# EAGLE library part RC522 (library LARS_409_MODULES)
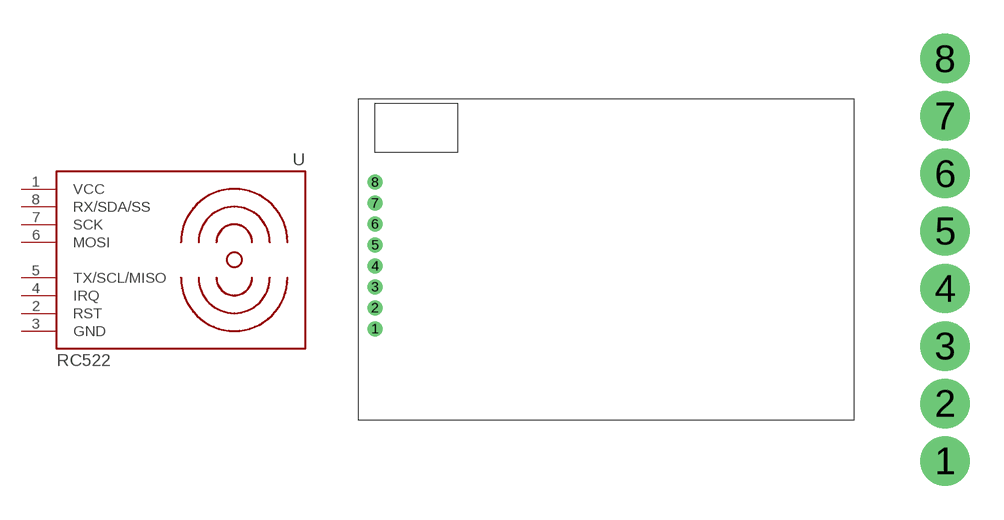
[diagram p2: symbol with the pads of RC522_TOP; footprints RC522_TOP, RC522_BOT]

Designator prefix -

## RC522  [RC522_TOP]
1  VCC
2  RST
3  GND
4  IRQ
5  TX/SCL/MISO
6  MOSI
7  SCK
8  RX/SDA/SS

## RC522BOT  [RC522_BOT]
Pads as for RC522_TOP

## Footprint RC522_TOP (pad centres in mm)
drill 1.2: 1 2,11.1; 2 2,13.64; 3 2,16.18; 4 2,18.72; 5 2,21.26; 6 2,23.8; 7 2,26.34; 8 2,28.88

## Footprint RC522_BOT (pad centres in mm)
drill 1.2 pad 2.184: 1 2,11.1; 2 2,13.64; 3 2,16.18; 4 2,18.72; 5 2,21.26; 6 2,23.8; 7 2,26.34; 8 2,28.88